# Altium footprint library TP3PcbLib.PcbLib: 12 footprints
Each footprint in its own frame and in the unit in brackets; x right, y up, seen from the top. Pads: shape width x height; smd on the part's side, far side on the other; paste and mask are expansions set on the pad; w line width, h text height; cw(c..) or ccw(c..) is an arc to the next point about the centre after c.
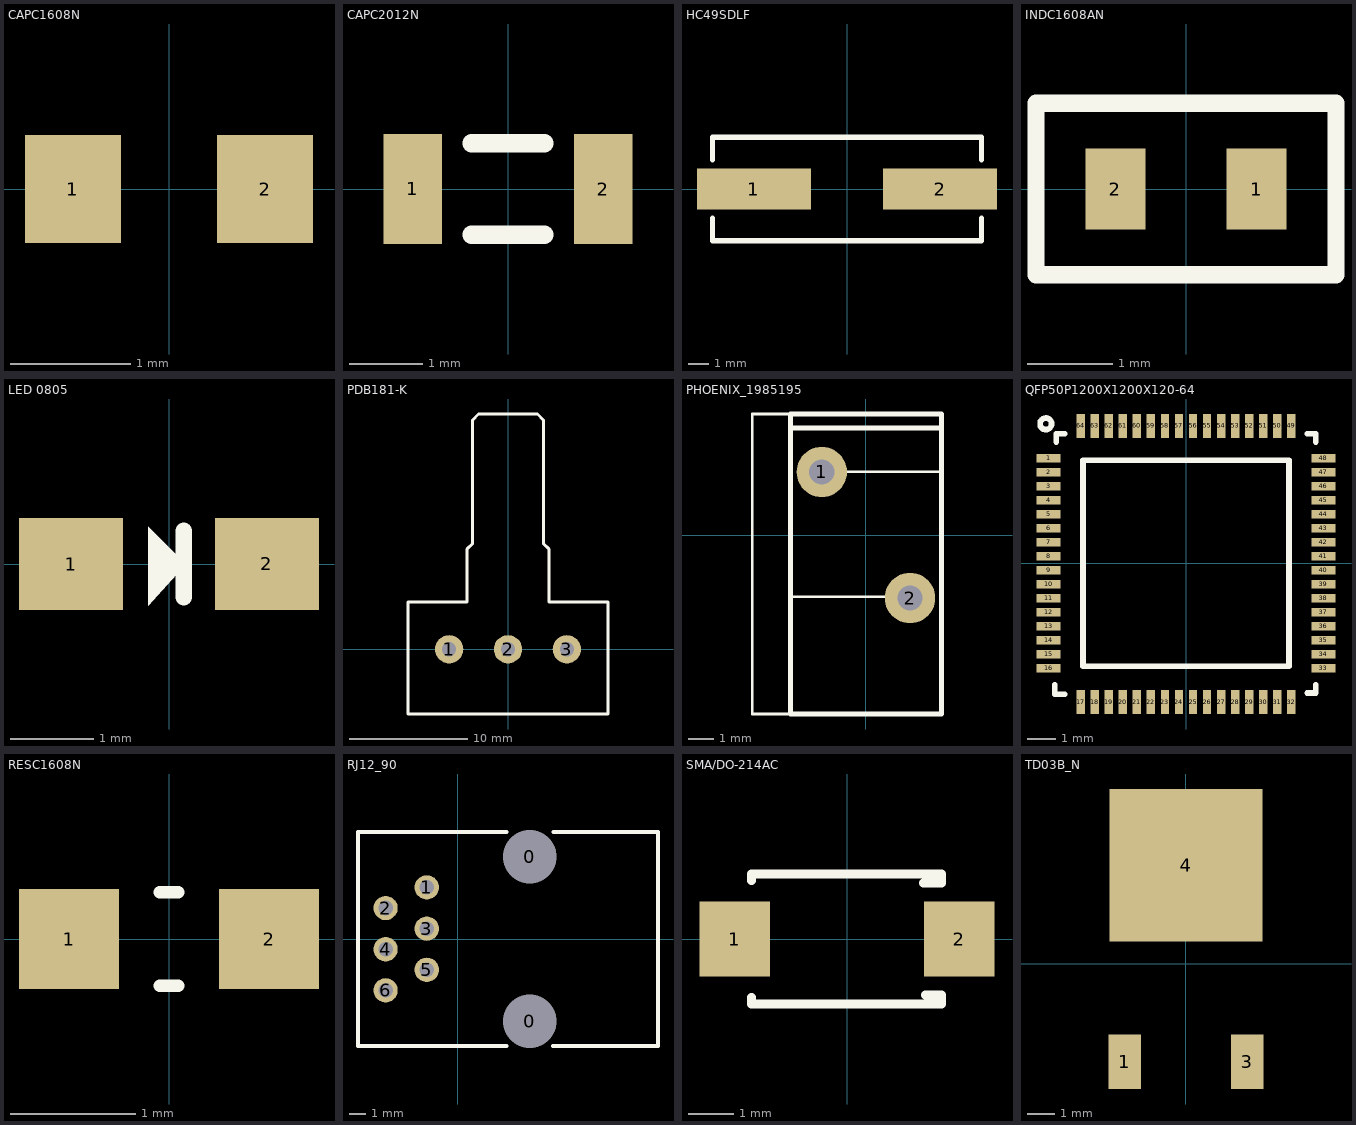
[diagram p0: the footprints below, top view; thin cyan lines are the x and y axes]

## CAPC1608N [mm]
pads (2):
  rect 0.8x0.9 smd: 1(-0.8,0) 2(0.8,0)

## CAPC2012N [mm]
pads (2):
  rect 0.8x1.5 smd: 1(-1.3,0) 2(1.3,0)
Top Overlay:
  lines w0.25: -0.5,-0.625 0.5,-0.625 ; -0.5,0.625 0.5,0.625

## HC49SDLF [mm]
pads (2):
  rect 5.5x2 smd: 1(-4.5,0) 2(4.5,0)
Top Overlay:
  lines w0.254: -6.5,-1.4 -6.5,-2.5 6.5,-2.5 6.5,-1.4 ; -6.5,1.4 -6.5,2.5 6.5,2.5 6.5,1.4

## INDC1608AN [mm]
pads (2):
  rect 0.7x0.95 smd: 1(0.825,0) 2(-0.825,0)
Top Overlay:
  lines w0.2: -1.75,-1 1.75,-1 1.75,1 -1.75,1 -1.75,-1

## LED 0805 [mm]
pads (2):
  rect 1.25x1.1 smd: 1(-1.175,0) 2(1.175,0)
Top Overlay:
  region: 0.2,0 -0.25,0.45 -0.25,-0.5
  lines w0.2: 0.175,-0.4 0.175,0.4

## PDB181-K [mm]
pads (3):
  round 2.4 hole 1.2: 1(-5,0) 2(0,0) 3(5,0)
Top Overlay:
  lines w0.254: 2.475,20 -2.5,20 -3,19.5 -3,9 -3.5,8.5 -3.5,4 -8.5,4 -8.5,-5.5 8.5,-5.5 8.5,4 3.5,4 3.5,8.5 3,9 3,19.5 2.5,20

## PHOENIX_1985195 [mm]
pads (2):
  round 2 hole 1: 1(-1.75,2.5) 2(1.75,-2.5)
Top Overlay:
  lines w0.1: -4.5,4.775 -4.5,-7.1 -2.975,-7.1 ; -4.5,4.8 -3,4.8 ; -3,-2.45 0.725,-2.45 ; -0.725,2.5 3,2.5
  lines w0.2: -3,4.775 -3,-7.1 3,-7.1 3,4.775 ; -3,4.8 3,4.8 ; -2.95,4.25 2.95,4.25

## QFP50P1200X1200X120-64 [mm]
pads (64):
  rect 0.85x0.3 smd: 1(-4.9,3.75) 2(-4.9,3.25) 3(-4.9,2.75) 4(-4.9,2.25) 5(-4.9,1.75) 6(-4.9,1.25) 7(-4.9,0.75) 8(-4.9,0.25) 9(-4.9,-0.25) 10(-4.9,-0.75) 11(-4.9,-1.25) 12(-4.9,-1.75) 13(-4.9,-2.25) 14(-4.9,-2.75) 15(-4.9,-3.25) 16(-4.9,-3.75) 33(4.9,-3.75) 34(4.9,-3.25) 35(4.9,-2.75) 36(4.9,-2.25) 37(4.9,-1.75) 38(4.9,-1.25) 39(4.9,-0.75) 40(4.9,-0.25) 41(4.9,0.25) 42(4.9,0.75) 43(4.9,1.25) 44(4.9,1.75) 45(4.9,2.25) 46(4.9,2.75) 47(4.9,3.25) 48(4.9,3.75)
  rect 0.3x0.85 smd: 17(-3.75,-4.95) 18(-3.25,-4.95) 19(-2.75,-4.95) 20(-2.25,-4.95) 21(-1.75,-4.95) 22(-1.25,-4.95) 23(-0.75,-4.95) 24(-0.25,-4.95) 25(0.25,-4.95) 26(0.75,-4.95) 27(1.25,-4.95) 28(1.75,-4.95) 29(2.25,-4.95) 30(2.75,-4.95) 31(3.25,-4.95) 32(3.75,-4.95) 49(3.75,4.9) 50(3.25,4.9) 51(2.75,4.9) 52(2.25,4.9) 53(1.75,4.9) 54(1.25,4.9) 55(0.75,4.9) 56(0.25,4.9) 57(-0.25,4.9) 58(-0.75,4.9) 59(-1.25,4.9) 60(-1.75,4.9) 61(-2.25,4.9) 62(-2.75,4.9) 63(-3.25,4.9) 64(-3.75,4.9)
Top Overlay:
  circle w0.2: c-5,4.975 r0.206
  lines w0.2: -4.675,-4.325 -4.675,-4.675 -4.325,-4.675 ; -4.625,4.325 -4.625,4.625 -4.325,4.625 ; 4.325,-4.625 4.625,-4.625 4.625,-4.325 ; 4.325,4.625 4.625,4.625 4.625,4.325 ; -3.675,-3.675 -3.675,3.675 3.675,3.675 3.675,-3.675 -3.675,-3.675

## RESC1608N [mm]
pads (2):
  rect 0.8x0.8 smd: 1(-0.8,0) 2(0.8,0)
Top Overlay:
  lines w0.1: -0.075,-0.375 0.075,-0.375 ; -0.075,0.375 0.075,0.375

## RJ12_90 [mm]
pads (8):
  round 3.25 hole 3.3 unplated: 0(4.45,-5.08) 0(4.45,5.08)
  round 1.5 hole 0.9: 1(-1.91,3.18) 2(-4.45,1.91) 3(-1.91,0.64) 4(-4.45,-0.63) 5(-1.91,-1.9) 6(-4.45,-3.17)
Top Overlay:
  lines w0.25: -6.15,-6.6 3,-6.6 ; -6.15,6.6 3,6.6 ; 5.875,-6.6 12.35,-6.6 ; 5.9,6.6 12.35,6.6
  lines w0.254: -6.15,-6.6 -6.15,6.6 ; 12.35,-6.6 12.35,6.6

## SMA/DO-214AC [mm]
pads (2):
  rect 1.56x1.68 smd: 1(-2.5,0) 2(2.5,0)
Top Overlay:
  lines w0.2: -2.125,-1.3 -2.125,-1.45 2.1,-1.45 2.1,-1.25 1.75,-1.25 ; -2.125,1.3 -2.125,1.45 2.1,1.45 2.1,1.25 1.7,1.25

## TD03B_N [mm]
pads (3):
  rect 1.2x2 smd: 1(-2.25,-3.6) 3(2.25,-3.6)
  rect 5.6x5.6 smd: 4(0,3.6)